# Altium integrated library Cypress USB Controllers.IntLib: 169 symbols (part 6 of 16)
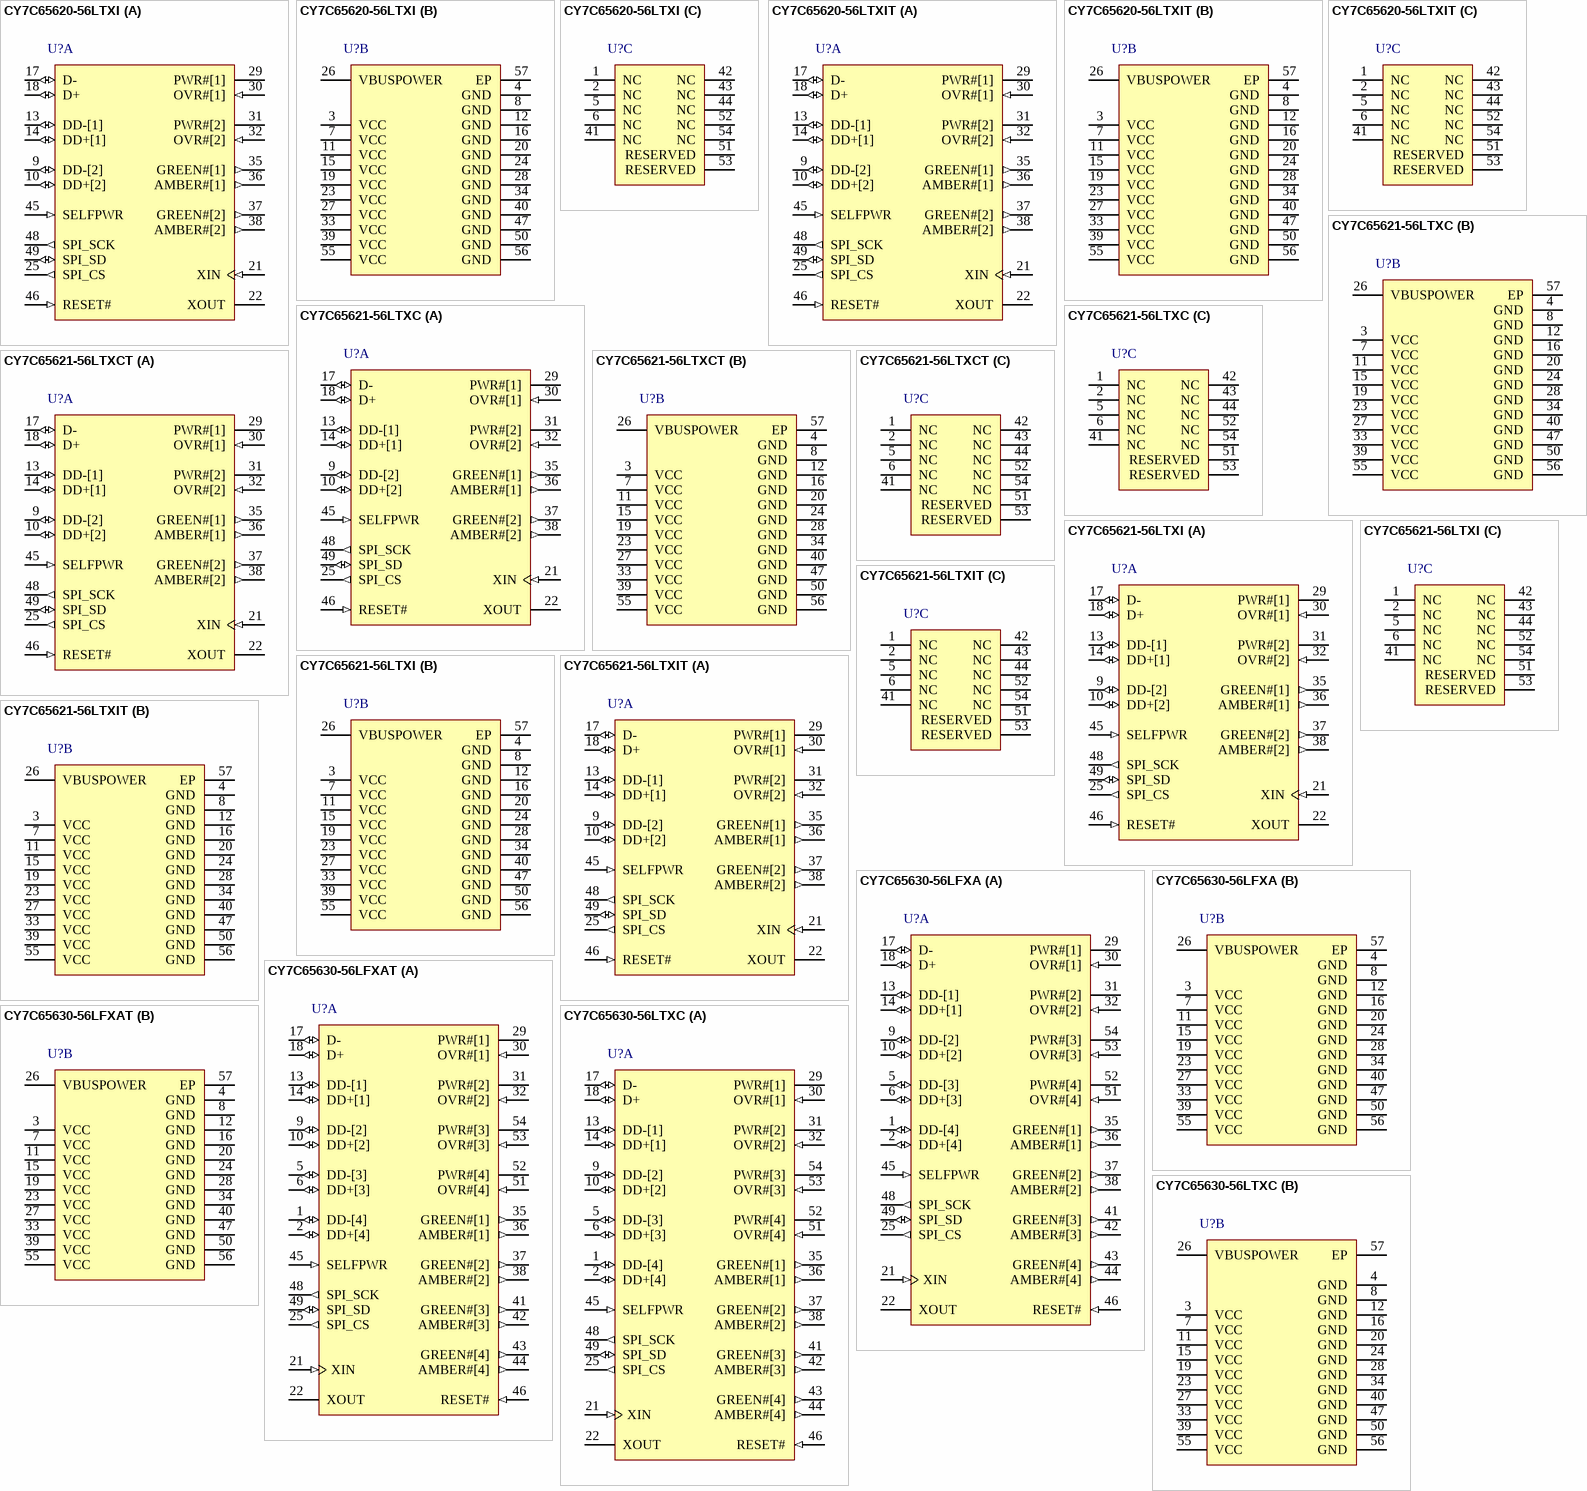
[diagram p27: symbols CY7C65620-56LTXI to CY7C65630-56LTXC]

## CY7C65630-56LFXA
designator U?
EZ-USB HX2LP(TM) Low Power USB 2.0 Hub Controller Family, 4 Hub Ports, 3.15 to 3.45 V, -40 to 85 degC, 56-Pin QFN (LFX56), Tray; Manufacturer: Cypress; PartNumber: CY7C65630-56LFXA; Max. Operating Voltage (V): 3.45; Min. Operating Voltage (V): 3.15; No. of Hub Ports: 4; Single/Multi TT: Single; DatasheetVersion: Rev. *I; PackageVersion: Rev. *I; PackageReference: LFX56; PackageDescription: 56-Pin QFN (Subcon Punch Type), Body 8 x 8 mm, Pitch 0.5 mm; Supplier 1: Digi-Key; Supplier Part Number 1: CY7C65630-56LFXA-ND; Supplier 2: Farnell; Supplier Part Number 2: 1874118; Supplier 3: Newark; Supplier Part Number 3: 53M3691; Supplier 4: Mouser; Supplier Part Number 4: 727-CY7C65630-56LFXA; Max. Operating Temp. (degreesC): 85; Min. Operating Temp. (degreesC): -40; Packing: Tray; RoHS: Pb-Free; Mounting Technology: Surface Mount; Code_JEDEC: MO-220; ComponentLink1Description: Manufacturer URL; ComponentLink1URL: http://www.cypress.com/; ComponentLink2Description: Datasheet; ComponentLink2URL: http://www.cypress.com/?docID=45022; ComponentLink3Description: Package Specification; ComponentLink3URL: http://www.cypress.com/?docID=45022
footprint CYP-LFX56-6100X6100TP_N (QFN, 56-Leads, Body 8.1x8.1mm, Pitch 0.5mm, Thermal Pad 6.1X6.1mm, IPC Medium Density)
footprint CYP-LFX56-6100X6100TP_L (QFN, 56-Leads, Body 8.1x8.1mm, Pitch 0.5mm, Thermal Pad 6.1X6.1mm, IPC High Density)
footprint CYP-LFX56-6100X6100TP_M (QFN, 56-Leads, Body 8.1x8.1mm, Pitch 0.5mm, Thermal Pad 6.1X6.1mm, IPC Low Density)
part A pins: 1 DD-[4] (io) "Downstream D- Signal.", 2 DD+[4] (io) "Downstream D+ Signal.", 5 DD-[3] (io) "Downstream D- Signal.", 6 DD+[3] (io) "Downstream D+ Signal.", 9 DD-[2] (io) "Downstream D- Signal.", 10 DD+[2] (io) "Downstream D+ Signal.", 13 DD-[1] (io) "Downstream D- Signal.", 14 DD+[1] (io) "Downstream D+ Signal.", 17 D- (io) "Upstream D- Signal.", 18 D+ (io) "Upstream D+ Signal.", 21 XIN (in) "24 MHz crystal IN or external clock input.", 22 XOUT "24 MHz crystal OUT. (NC if external clock is used)", 25 SPI_CS (out) "SPI chip select. Connect to CS pin of the EEPROM.", 29 PWR#[1] (hiz) "Power switch driver output. Default is active LOW. Polarity is controlled through EEPROM.", 30 OVR#[1] (in) "Overcurrent condition detection input. Default is active LOW. Polarity is controlled through EEPROM.", 31 PWR#[2] (hiz) "Power switch driver output. Default is active LOW. Polarity is controlled through EEPROM.", 32 OVR#[2] (in) "Overcurrent condition detection input. Default is active LOW. Polarity is controlled through EEPROM.", 35 GREEN#[1] (out) "LED. Driver output for Green LED. Port indicator support. Default is active LOW. Polarity is controlled through EEPROM.", 36 AMBER#[1] (out) "LED. Driver output for Amber LED. Port indicator support. Default is active LOW. Polarity is controlled through EEPROM.", 37 GREEN#[2] (out) "LED. Driver output for green LED. Port indicator support. Default is active LOW. Polarity is controlled through EEPROM.", 38 AMBER#[2] (out) "LED. Driver output for amber LED. Port indicator support. Default is active LOW. Polarity is controlled through EEPROM.", 41 GREEN#[3] (out) "LED. Driver output for Green LED. Port indicator support. Default is active LOW. Polarity is controlled through EEPROM.", 42 AMBER#[3] (out) "LED. Driver output for amber LED. Port indicator support. Default is active LOW. Polarity is controlled through EEPROM.", 43 GREEN#[4] (out) "LED. Driver output for Green LED. Port indicator support. Default is active LOW. Polarity is controlled through EEPROM.", 44 AMBER#[4] (out) "LED. Driver output for amber LED. Port indicator support. Default is active LOW. Polarity is controlled through EEPROM.", 45 SELFPWR (in) "Self power. Indicator for bus or self powered. 0 is bus powered, 1 is self powered.", 46 RESET# (in) "Active LOW reset. This pin resets the entire chip. It is normally tied to VCC through a 100 K resistor, and to GND through a 0.1 uF capacitor. No other special power-up procedure is required.", 48 SPI_SCK (out) "SPI clock. Connect to EEPROM SCK pin.", 49 SPI_SD (io) "SPI dataline connect to GND with 15 kW resistor and to the Data I/O pin of the EEPROM.", 51 OVR#[4] (in) "Overcurrent condition detection input. Default is active LOW. Polarity is controlled through EEPROM. Reserved. Pull to deasserted state with external resistor (CY7C65620 only)", 52 PWR#[4] (hiz) "Power switch driver output. Default is active LOW. Polarity is controlled through EEPROM.", 53 OVR#[3] (in) "Overcurrent condition detection input. Default is active LOW. Polarity is controlled through EEPROM. Reserved. Pull to deasserted state with external resistor (CY7C65620 only)", 54 PWR#[3] (hiz) "Power switch driver output. Default is active LOW. Polarity is controlled through EEPROM."
part B pins: 3 VCC (power) "VCC. This signal provides power to the chip.", 4 GND (power) "GND. Connect to ground with as short a path as possible.", 7 VCC (power) "VCC. This signal provides power to the chip.", 8 GND (power) "GND. Connect to ground with as short a path as possible.", 11 VCC (power) "VCC. This signal provides power to the chip.", 12 GND (power) "GND. Connect to ground with as short a path as possible.", 15 VCC (power) "VCC. This signal provides power to the chip.", 16 GND (power) "GND. Connect to ground with as short a path as possible.", 19 VCC (power) "VCC. This signal provides power to the chip.", 20 GND (power) "GND. Connect to ground with as short a path as possible.", 23 VCC (power) "VCC. This signal provides power to the chip.", 24 GND (power) "GND. Connect to ground with as short a path as possible.", 26 VBUSPOWER (power) "VBUS. Connect to the VBUS pin of the upstream connector. This signal indicates to the hub that it is in a connected state, and may enable the D+ pull-up resistor to indicate a connection. (The hub does so after the external (See Datasheet)", 27 VCC (power) "VCC. This signal provides power to the chip.", 28 GND (power) "GND. Connect to ground with as short a path as possible.", 33 VCC (power) "VCC. This signal provides power to the chip.", 34 GND (power) "GND. Connect to ground with as short a path as possible.", 39 VCC (power) "VCC. This signal provides power to the chip.", 40 GND (power) "GND. Connect to ground with as short a path as possible.", 47 GND (power) "GND. Connect to ground with as short a path as possible.", 50 GND (power) "GND. Connect to ground with as short a path as possible.", 55 VCC (power) "VCC. This signal provides power to the chip.", 56 GND (power) "GND. Connect to ground with as short a path as possible.", 57 EP

## CY7C65630-56LFXAT
designator U?
EZ-USB HX2LP(TM) Low Power USB 2.0 Hub Controller Family, 4 Hub Ports, 3.15 to 3.45 V, -40 to 85 degC, 56-Pin QFN (LFX56), Tape and Reel; Manufacturer: Cypress; PartNumber: CY7C65630-56LFXAT; Max. Operating Voltage (V): 3.45; Min. Operating Voltage (V): 3.15; No. of Hub Ports: 4; Single/Multi TT: Single; DatasheetVersion: Rev. *I; PackageVersion: Rev. *I; PackageReference: LFX56; PackageDescription: 56-Pin QFN (Subcon Punch Type), Body 8 x 8 mm, Pitch 0.5 mm; Supplier 1: Newark; Supplier Part Number 1: 53M3692; Supplier 2: Mouser; Supplier Part Number 2: 727-CY7C6563056LFXAT; Max. Operating Temp. (degreesC): 85; Min. Operating Temp. (degreesC): -40; Packing: Tape and Reel; RoHS: Pb-Free; Mounting Technology: Surface Mount; Code_JEDEC: MO-220; ComponentLink1Description: Manufacturer URL; ComponentLink1URL: http://www.cypress.com/; ComponentLink2Description: Datasheet; ComponentLink2URL: http://www.cypress.com/?docID=45022; ComponentLink3Description: Package Specification; ComponentLink3URL: http://www.cypress.com/?docID=45022
footprint CYP-LFX56-6100X6100TP_N (QFN, 56-Leads, Body 8.1x8.1mm, Pitch 0.5mm, Thermal Pad 6.1X6.1mm, IPC Medium Density)
footprint CYP-LFX56-6100X6100TP_L (QFN, 56-Leads, Body 8.1x8.1mm, Pitch 0.5mm, Thermal Pad 6.1X6.1mm, IPC High Density)
footprint CYP-LFX56-6100X6100TP_M (QFN, 56-Leads, Body 8.1x8.1mm, Pitch 0.5mm, Thermal Pad 6.1X6.1mm, IPC Low Density)
part A pins: 1 DD-[4] (io) "Downstream D- Signal.", 2 DD+[4] (io) "Downstream D+ Signal.", 5 DD-[3] (io) "Downstream D- Signal.", 6 DD+[3] (io) "Downstream D+ Signal.", 9 DD-[2] (io) "Downstream D- Signal.", 10 DD+[2] (io) "Downstream D+ Signal.", 13 DD-[1] (io) "Downstream D- Signal.", 14 DD+[1] (io) "Downstream D+ Signal.", 17 D- (io) "Upstream D- Signal.", 18 D+ (io) "Upstream D+ Signal.", 21 XIN (in) "24 MHz crystal IN or external clock input.", 22 XOUT "24 MHz crystal OUT. (NC if external clock is used)", 25 SPI_CS (out) "SPI chip select. Connect to CS pin of the EEPROM.", 29 PWR#[1] (hiz) "Power switch driver output. Default is active LOW. Polarity is controlled through EEPROM.", 30 OVR#[1] (in) "Overcurrent condition detection input. Default is active LOW. Polarity is controlled through EEPROM.", 31 PWR#[2] (hiz) "Power switch driver output. Default is active LOW. Polarity is controlled through EEPROM.", 32 OVR#[2] (in) "Overcurrent condition detection input. Default is active LOW. Polarity is controlled through EEPROM.", 35 GREEN#[1] (out) "LED. Driver output for Green LED. Port indicator support. Default is active LOW. Polarity is controlled through EEPROM.", 36 AMBER#[1] (out) "LED. Driver output for Amber LED. Port indicator support. Default is active LOW. Polarity is controlled through EEPROM.", 37 GREEN#[2] (out) "LED. Driver output for green LED. Port indicator support. Default is active LOW. Polarity is controlled through EEPROM.", 38 AMBER#[2] (out) "LED. Driver output for amber LED. Port indicator support. Default is active LOW. Polarity is controlled through EEPROM.", 41 GREEN#[3] (out) "LED. Driver output for Green LED. Port indicator support. Default is active LOW. Polarity is controlled through EEPROM.", 42 AMBER#[3] (out) "LED. Driver output for amber LED. Port indicator support. Default is active LOW. Polarity is controlled through EEPROM.", 43 GREEN#[4] (out) "LED. Driver output for Green LED. Port indicator support. Default is active LOW. Polarity is controlled through EEPROM.", 44 AMBER#[4] (out) "LED. Driver output for amber LED. Port indicator support. Default is active LOW. Polarity is controlled through EEPROM.", 45 SELFPWR (in) "Self power. Indicator for bus or self powered. 0 is bus powered, 1 is self powered.", 46 RESET# (in) "Active LOW reset. This pin resets the entire chip. It is normally tied to VCC through a 100 K resistor, and to GND through a 0.1 uF capacitor. No other special power-up procedure is required.", 48 SPI_SCK (out) "SPI clock. Connect to EEPROM SCK pin.", 49 SPI_SD (io) "SPI dataline connect to GND with 15 kW resistor and to the Data I/O pin of the EEPROM.", 51 OVR#[4] (in) "Overcurrent condition detection input. Default is active LOW. Polarity is controlled through EEPROM. Reserved. Pull to deasserted state with external resistor (CY7C65620 only)", 52 PWR#[4] (hiz) "Power switch driver output. Default is active LOW. Polarity is controlled through EEPROM.", 53 OVR#[3] (in) "Overcurrent condition detection input. Default is active LOW. Polarity is controlled through EEPROM. Reserved. Pull to deasserted state with external resistor (CY7C65620 only)", 54 PWR#[3] (hiz) "Power switch driver output. Default is active LOW. Polarity is controlled through EEPROM."
part B pins: 3 VCC (power) "VCC. This signal provides power to the chip.", 4 GND (power) "GND. Connect to ground with as short a path as possible.", 7 VCC (power) "VCC. This signal provides power to the chip.", 8 GND (power) "GND. Connect to ground with as short a path as possible.", 11 VCC (power) "VCC. This signal provides power to the chip.", 12 GND (power) "GND. Connect to ground with as short a path as possible.", 15 VCC (power) "VCC. This signal provides power to the chip.", 16 GND (power) "GND. Connect to ground with as short a path as possible.", 19 VCC (power) "VCC. This signal provides power to the chip.", 20 GND (power) "GND. Connect to ground with as short a path as possible.", 23 VCC (power) "VCC. This signal provides power to the chip.", 24 GND (power) "GND. Connect to ground with as short a path as possible.", 26 VBUSPOWER (power) "VBUS. Connect to the VBUS pin of the upstream connector. This signal indicates to the hub that it is in a connected state, and may enable the D+ pull-up resistor to indicate a connection. (The hub does so after the external (See Datasheet)", 27 VCC (power) "VCC. This signal provides power to the chip.", 28 GND (power) "GND. Connect to ground with as short a path as possible.", 33 VCC (power) "VCC. This signal provides power to the chip.", 34 GND (power) "GND. Connect to ground with as short a path as possible.", 39 VCC (power) "VCC. This signal provides power to the chip.", 40 GND (power) "GND. Connect to ground with as short a path as possible.", 47 GND (power) "GND. Connect to ground with as short a path as possible.", 50 GND (power) "GND. Connect to ground with as short a path as possible.", 55 VCC (power) "VCC. This signal provides power to the chip.", 56 GND (power) "GND. Connect to ground with as short a path as possible.", 57 EP

## CY7C65630-56LTXC
designator U?
EZ-USB HX2LP(TM) Low Power USB 2.0 Hub Controller Family, 4 Hub Ports, 3.15 to 3.45 V, 0 to 70 degC, 56-Pin QFN (LTX56), Tray; Manufacturer: Cypress; PartNumber: CY7C65630-56LTXC; Max. Operating Voltage (V): 3.45; Min. Operating Voltage (V): 3.15; No. of Hub Ports: 4; Single/Multi TT: Single; DatasheetVersion: Rev. *I; PackageVersion: Rev. *F; PackageReference: LTX56; PackageDescription: 56-Pin Sawn QFN, Body 8 x 8 mm, Pitch 0.5 mm; Supplier 1: Digi-Key; Supplier Part Number 1: 428-3009-ND; Supplier 2: Farnell; Supplier Part Number 2: 1874102; Supplier 3: Newark; Supplier Part Number 3: 50R9445; Supplier 4: Mouser; Supplier Part Number 4: 727-CY7C65630-56LTXC; Max. Operating Temp. (degreesC): 70; Min. Operating Temp. (degreesC): 0; Packing: Tray; RoHS: Pb-Free; Mounting Technology: Surface Mount; Code_JEDEC: MO-220; ComponentLink1Description: Manufacturer URL; ComponentLink1URL: http://www.cypress.com/; ComponentLink2Description: Datasheet; ComponentLink2URL: http://www.cypress.com/?docID=45022; ComponentLink3Description: Package Specification; ComponentLink3URL: http://www.cypress.com/?docID=45022
footprint CYP-LTX56-6100X6100TP_N (QFN, 56-Leads, Body 8.1x8.1mm, Pitch 0.5mm, Thermal Pad 6.1x6.1mm, IPC Medium Density)
footprint CYP-LTX56-6100X6100TP_L (QFN, 56-Leads, Body 8.1x8.1mm, Pitch 0.5mm, Thermal Pad 6.1x6.1mm, IPC High Density)
footprint CYP-LTX56-6100X6100TP_M (QFN, 56-Leads, Body 8.1x8.1mm, Pitch 0.5mm, Thermal Pad 6.1x6.1mm, IPC Low Density)
part A pins: 1 DD-[4] (io) "Downstream D- Signal.", 2 DD+[4] (io) "Downstream D+ Signal.", 5 DD-[3] (io) "Downstream D- Signal.", 6 DD+[3] (io) "Downstream D+ Signal.", 9 DD-[2] (io) "Downstream D- Signal.", 10 DD+[2] (io) "Downstream D+ Signal.", 13 DD-[1] (io) "Downstream D- Signal.", 14 DD+[1] (io) "Downstream D+ Signal.", 17 D- (io) "Upstream D- Signal.", 18 D+ (io) "Upstream D+ Signal.", 21 XIN (in) "24 MHz crystal IN or external clock input.", 22 XOUT "24 MHz crystal OUT. (NC if external clock is used)", 25 SPI_CS (out) "SPI chip select. Connect to CS pin of the EEPROM.", 29 PWR#[1] (hiz) "Power switch driver output. Default is active LOW. Polarity is controlled through EEPROM.", 30 OVR#[1] (in) "Overcurrent condition detection input. Default is active LOW. Polarity is controlled through EEPROM.", 31 PWR#[2] (hiz) "Power switch driver output. Default is active LOW. Polarity is controlled through EEPROM.", 32 OVR#[2] (in) "Overcurrent condition detection input. Default is active LOW. Polarity is controlled through EEPROM.", 35 GREEN#[1] (out) "LED. Driver output for Green LED. Port indicator support. Default is active LOW. Polarity is controlled through EEPROM.", 36 AMBER#[1] (out) "LED. Driver output for Amber LED. Port indicator support. Default is active LOW. Polarity is controlled through EEPROM.", 37 GREEN#[2] (out) "LED. Driver output for green LED. Port indicator support. Default is active LOW. Polarity is controlled through EEPROM.", 38 AMBER#[2] (out) "LED. Driver output for amber LED. Port indicator support. Default is active LOW. Polarity is controlled through EEPROM.", 41 GREEN#[3] (out) "LED. Driver output for Green LED. Port indicator support. Default is active LOW. Polarity is controlled through EEPROM.", 42 AMBER#[3] (out) "LED. Driver output for amber LED. Port indicator support. Default is active LOW. Polarity is controlled through EEPROM.", 43 GREEN#[4] (out) "LED. Driver output for Green LED. Port indicator support. Default is active LOW. Polarity is controlled through EEPROM.", 44 AMBER#[4] (out) "LED. Driver output for amber LED. Port indicator support. Default is active LOW. Polarity is controlled through EEPROM.", 45 SELFPWR (in) "Self power. Indicator for bus or self powered. 0 is bus powered, 1 is self powered.", 46 RESET# (in) "Active LOW reset. This pin resets the entire chip. It is normally tied to VCC through a 100 K resistor, and to GND through a 0.1 uF capacitor. No other special power-up procedure is required.", 48 SPI_SCK (out) "SPI clock. Connect to EEPROM SCK pin.", 49 SPI_SD (io) "SPI dataline connect to GND with 15 kW resistor and to the Data I/O pin of the EEPROM.", 51 OVR#[4] (in) "Overcurrent condition detection input. Default is active LOW. Polarity is controlled through EEPROM. Reserved. Pull to deasserted state with external resistor (CY7C65620 only)", 52 PWR#[4] (hiz) "Power switch driver output. Default is active LOW. Polarity is controlled through EEPROM.", 53 OVR#[3] (in) "Overcurrent condition detection input. Default is active LOW. Polarity is controlled through EEPROM. Reserved. Pull to deasserted state with external resistor (CY7C65620 only)", 54 PWR#[3] (hiz) "Power switch driver output. Default is active LOW. Polarity is controlled through EEPROM."
part B pins: 3 VCC (power) "VCC. This signal provides power to the chip.", 4 GND (power) "GND. Connect to ground with as short a path as possible.", 7 VCC (power) "VCC. This signal provides power to the chip.", 8 GND (power) "GND. Connect to ground with as short a path as possible.", 11 VCC (power) "VCC. This signal provides power to the chip.", 12 GND (power) "GND. Connect to ground with as short a path as possible.", 15 VCC (power) "VCC. This signal provides power to the chip.", 16 GND (power) "GND. Connect to ground with as short a path as possible.", 19 VCC (power) "VCC. This signal provides power to the chip.", 20 GND (power) "GND. Connect to ground with as short a path as possible.", 23 VCC (power) "VCC. This signal provides power to the chip.", 24 GND (power) "GND. Connect to ground with as short a path as possible.", 26 VBUSPOWER (power) "VBUS. Connect to the VBUS pin of the upstream connector. This signal indicates to the hub that it is in a connected state, and may enable the D+ pull-up resistor to indicate a connection. (The hub does so after the external (See Datasheet)", 27 VCC (power) "VCC. This signal provides power to the chip.", 28 GND (power) "GND. Connect to ground with as short a path as possible.", 33 VCC (power) "VCC. This signal provides power to the chip.", 34 GND (power) "GND. Connect to ground with as short a path as possible.", 39 VCC (power) "VCC. This signal provides power to the chip.", 40 GND (power) "GND. Connect to ground with as short a path as possible.", 47 GND (power) "GND. Connect to ground with as short a path as possible.", 50 GND (power) "GND. Connect to ground with as short a path as possible.", 55 VCC (power) "VCC. This signal provides power to the chip.", 56 GND (power) "GND. Connect to ground with as short a path as possible.", 57 EP

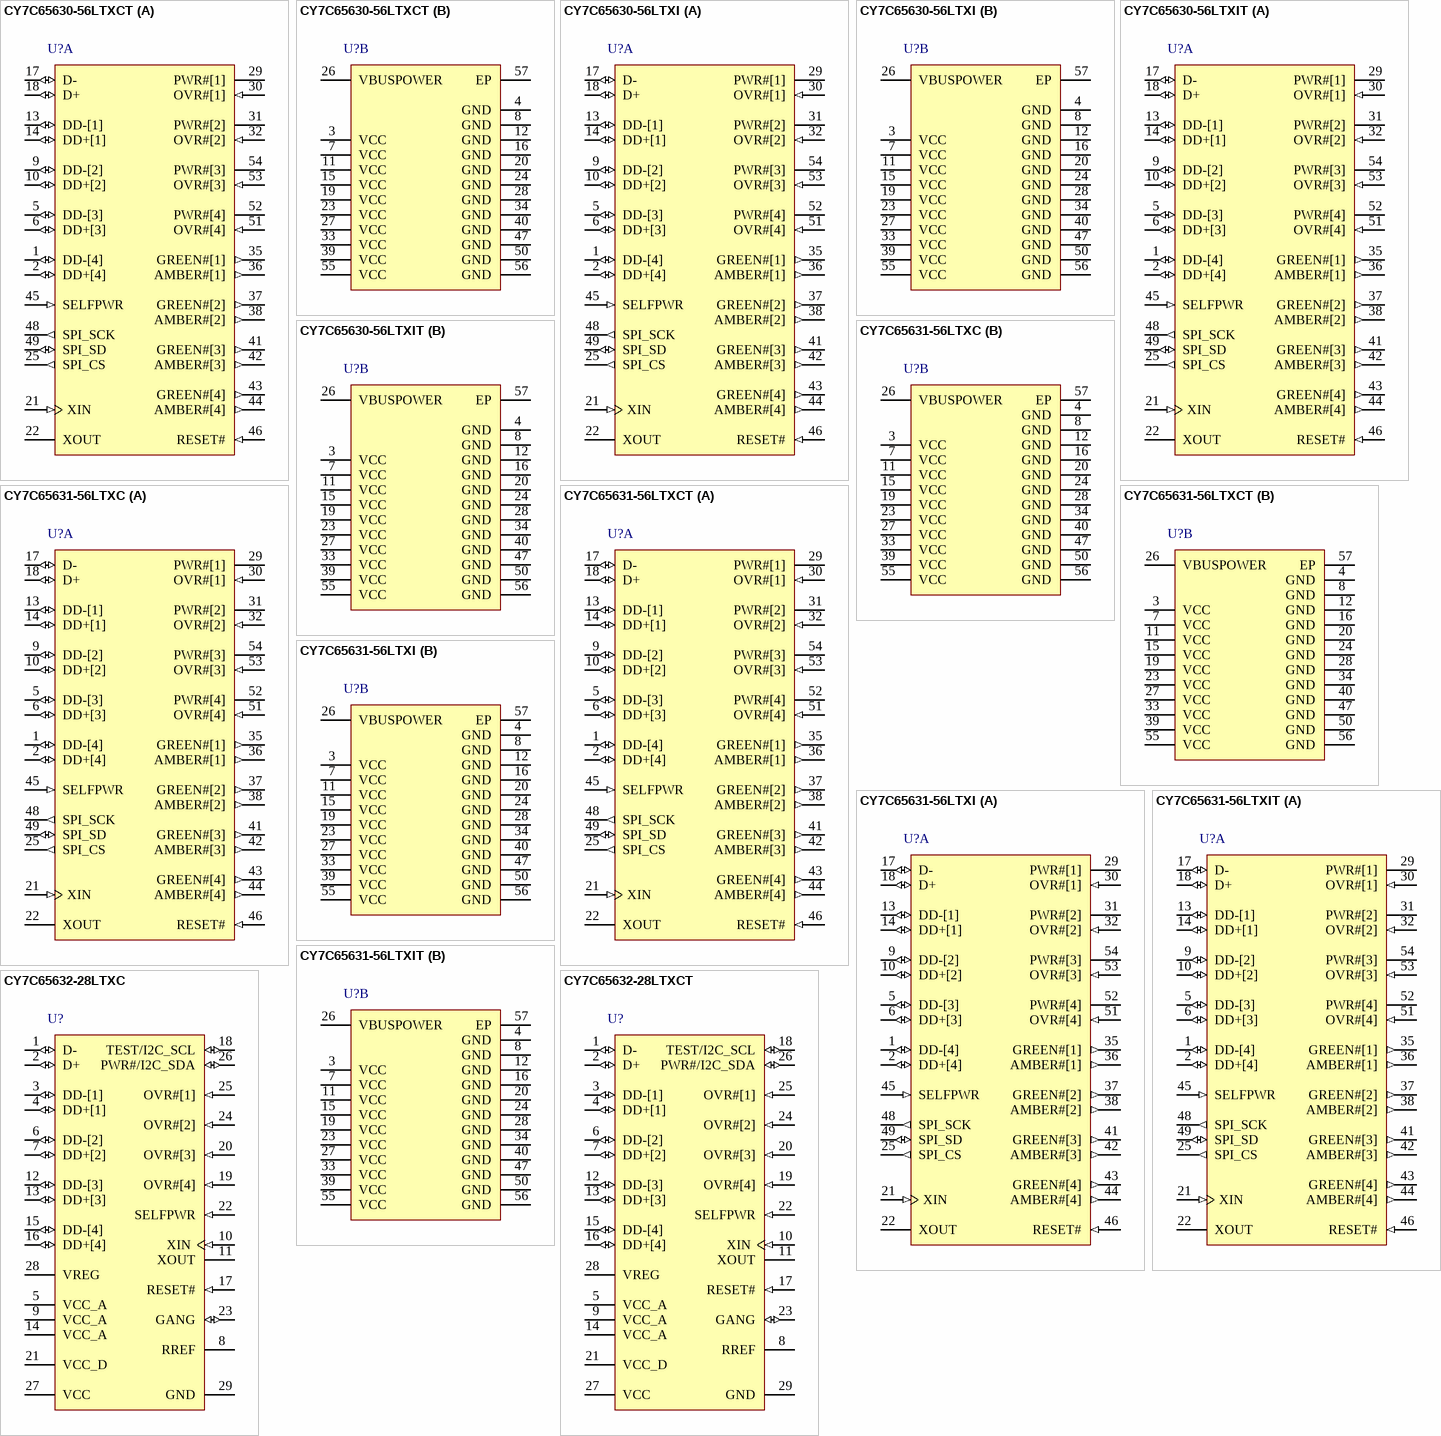
[diagram p5: symbols CY7C65630-56LTXCT to CY7C65632-28LTXCT]

## CY7C65630-56LTXCT
designator U?
EZ-USB HX2LP(TM) Low Power USB 2.0 Hub Controller Family, 4 Hub Ports, 3.15 to 3.45 V, 0 to 70 degC, 56-Pin QFN (LTX56), Tape and Reel; Manufacturer: Cypress; PartNumber: CY7C65630-56LTXCT; Max. Operating Voltage (V): 3.45; Min. Operating Voltage (V): 3.15; No. of Hub Ports: 4; Single/Multi TT: Single; DatasheetVersion: Rev. *I; PackageVersion: Rev. *F; PackageReference: LTX56; PackageDescription: 56-Pin Sawn QFN, Body 8 x 8 mm, Pitch 0.5 mm; Supplier 1: Digi-Key; Supplier Part Number 1: CY7C65630-56LTXCT-ND; Supplier 2: Mouser; Supplier Part Number 2: 727-CY7C6563056LTXCT; Max. Operating Temp. (degreesC): 70; Min. Operating Temp. (degreesC): 0; Packing: Tape and Reel; RoHS: Pb-Free; Mounting Technology: Surface Mount; Code_JEDEC: MO-220; ComponentLink1Description: Manufacturer URL; ComponentLink1URL: http://www.cypress.com/; ComponentLink2Description: Datasheet; ComponentLink2URL: http://www.cypress.com/?docID=45022; ComponentLink3Description: Package Specification; ComponentLink3URL: http://www.cypress.com/?docID=45022
footprint CYP-LTX56-6100X6100TP_N (QFN, 56-Leads, Body 8.1x8.1mm, Pitch 0.5mm, Thermal Pad 6.1x6.1mm, IPC Medium Density)
footprint CYP-LTX56-6100X6100TP_L (QFN, 56-Leads, Body 8.1x8.1mm, Pitch 0.5mm, Thermal Pad 6.1x6.1mm, IPC High Density)
footprint CYP-LTX56-6100X6100TP_M (QFN, 56-Leads, Body 8.1x8.1mm, Pitch 0.5mm, Thermal Pad 6.1x6.1mm, IPC Low Density)
part A pins: 1 DD-[4] (io) "Downstream D- Signal.", 2 DD+[4] (io) "Downstream D+ Signal.", 5 DD-[3] (io) "Downstream D- Signal.", 6 DD+[3] (io) "Downstream D+ Signal.", 9 DD-[2] (io) "Downstream D- Signal.", 10 DD+[2] (io) "Downstream D+ Signal.", 13 DD-[1] (io) "Downstream D- Signal.", 14 DD+[1] (io) "Downstream D+ Signal.", 17 D- (io) "Upstream D- Signal.", 18 D+ (io) "Upstream D+ Signal.", 21 XIN (in) "24 MHz crystal IN or external clock input.", 22 XOUT "24 MHz crystal OUT. (NC if external clock is used)", 25 SPI_CS (out) "SPI chip select. Connect to CS pin of the EEPROM.", 29 PWR#[1] (hiz) "Power switch driver output. Default is active LOW. Polarity is controlled through EEPROM.", 30 OVR#[1] (in) "Overcurrent condition detection input. Default is active LOW. Polarity is controlled through EEPROM.", 31 PWR#[2] (hiz) "Power switch driver output. Default is active LOW. Polarity is controlled through EEPROM.", 32 OVR#[2] (in) "Overcurrent condition detection input. Default is active LOW. Polarity is controlled through EEPROM.", 35 GREEN#[1] (out) "LED. Driver output for Green LED. Port indicator support. Default is active LOW. Polarity is controlled through EEPROM.", 36 AMBER#[1] (out) "LED. Driver output for Amber LED. Port indicator support. Default is active LOW. Polarity is controlled through EEPROM.", 37 GREEN#[2] (out) "LED. Driver output for green LED. Port indicator support. Default is active LOW. Polarity is controlled through EEPROM.", 38 AMBER#[2] (out) "LED. Driver output for amber LED. Port indicator support. Default is active LOW. Polarity is controlled through EEPROM.", 41 GREEN#[3] (out) "LED. Driver output for Green LED. Port indicator support. Default is active LOW. Polarity is controlled through EEPROM.", 42 AMBER#[3] (out) "LED. Driver output for amber LED. Port indicator support. Default is active LOW. Polarity is controlled through EEPROM.", 43 GREEN#[4] (out) "LED. Driver output for Green LED. Port indicator support. Default is active LOW. Polarity is controlled through EEPROM.", 44 AMBER#[4] (out) "LED. Driver output for amber LED. Port indicator support. Default is active LOW. Polarity is controlled through EEPROM.", 45 SELFPWR (in) "Self power. Indicator for bus or self powered. 0 is bus powered, 1 is self powered.", 46 RESET# (in) "Active LOW reset. This pin resets the entire chip. It is normally tied to VCC through a 100 K resistor, and to GND through a 0.1 uF capacitor. No other special power-up procedure is required.", 48 SPI_SCK (out) "SPI clock. Connect to EEPROM SCK pin.", 49 SPI_SD (io) "SPI dataline connect to GND with 15 kW resistor and to the Data I/O pin of the EEPROM.", 51 OVR#[4] (in) "Overcurrent condition detection input. Default is active LOW. Polarity is controlled through EEPROM. Reserved. Pull to deasserted state with external resistor (CY7C65620 only)", 52 PWR#[4] (hiz) "Power switch driver output. Default is active LOW. Polarity is controlled through EEPROM.", 53 OVR#[3] (in) "Overcurrent condition detection input. Default is active LOW. Polarity is controlled through EEPROM. Reserved. Pull to deasserted state with external resistor (CY7C65620 only)", 54 PWR#[3] (hiz) "Power switch driver output. Default is active LOW. Polarity is controlled through EEPROM."
part B pins: 3 VCC (power) "VCC. This signal provides power to the chip.", 4 GND (power) "GND. Connect to ground with as short a path as possible.", 7 VCC (power) "VCC. This signal provides power to the chip.", 8 GND (power) "GND. Connect to ground with as short a path as possible.", 11 VCC (power) "VCC. This signal provides power to the chip.", 12 GND (power) "GND. Connect to ground with as short a path as possible.", 15 VCC (power) "VCC. This signal provides power to the chip.", 16 GND (power) "GND. Connect to ground with as short a path as possible.", 19 VCC (power) "VCC. This signal provides power to the chip.", 20 GND (power) "GND. Connect to ground with as short a path as possible.", 23 VCC (power) "VCC. This signal provides power to the chip.", 24 GND (power) "GND. Connect to ground with as short a path as possible.", 26 VBUSPOWER (power) "VBUS. Connect to the VBUS pin of the upstream connector. This signal indicates to the hub that it is in a connected state, and may enable the D+ pull-up resistor to indicate a connection. (The hub does so after the external (See Datasheet)", 27 VCC (power) "VCC. This signal provides power to the chip.", 28 GND (power) "GND. Connect to ground with as short a path as possible.", 33 VCC (power) "VCC. This signal provides power to the chip.", 34 GND (power) "GND. Connect to ground with as short a path as possible.", 39 VCC (power) "VCC. This signal provides power to the chip.", 40 GND (power) "GND. Connect to ground with as short a path as possible.", 47 GND (power) "GND. Connect to ground with as short a path as possible.", 50 GND (power) "GND. Connect to ground with as short a path as possible.", 55 VCC (power) "VCC. This signal provides power to the chip.", 56 GND (power) "GND. Connect to ground with as short a path as possible.", 57 EP

## CY7C65630-56LTXI
designator U?
EZ-USB HX2LP(TM) Low Power USB 2.0 Hub Controller Family, 4 Hub Ports, 3.15 to 3.45 V, -40 to 85 degC, 56-Pin QFN (LTX56), Tray; Manufacturer: Cypress; PartNumber: CY7C65630-56LTXI; Max. Operating Voltage (V): 3.45; Min. Operating Voltage (V): 3.15; No. of Hub Ports: 4; Single/Multi TT: Single; DatasheetVersion: Rev. *I; PackageVersion: Rev. *F; PackageReference: LTX56; PackageDescription: 56-Pin Sawn QFN, Body 8 x 8 mm, Pitch 0.5 mm; Supplier 1: Digi-Key; Supplier Part Number 1: CY7C65630-56LTXI-ND; Supplier 2: Mouser; Supplier Part Number 2: 727-CY7C65630-56LTXI; Max. Operating Temp. (degreesC): 85; Min. Operating Temp. (degreesC): -40; Packing: Tray; RoHS: Pb-Free; Mounting Technology: Surface Mount; Code_JEDEC: MO-220; ComponentLink1Description: Manufacturer URL; ComponentLink1URL: http://www.cypress.com/; ComponentLink2Description: Datasheet; ComponentLink2URL: http://www.cypress.com/?docID=45022; ComponentLink3Description: Package Specification; ComponentLink3URL: http://www.cypress.com/?docID=45022
footprint CYP-LTX56-6100X6100TP_N (QFN, 56-Leads, Body 8.1x8.1mm, Pitch 0.5mm, Thermal Pad 6.1x6.1mm, IPC Medium Density)
footprint CYP-LTX56-6100X6100TP_L (QFN, 56-Leads, Body 8.1x8.1mm, Pitch 0.5mm, Thermal Pad 6.1x6.1mm, IPC High Density)
footprint CYP-LTX56-6100X6100TP_M (QFN, 56-Leads, Body 8.1x8.1mm, Pitch 0.5mm, Thermal Pad 6.1x6.1mm, IPC Low Density)
part A pins: 1 DD-[4] (io) "Downstream D- Signal.", 2 DD+[4] (io) "Downstream D+ Signal.", 5 DD-[3] (io) "Downstream D- Signal.", 6 DD+[3] (io) "Downstream D+ Signal.", 9 DD-[2] (io) "Downstream D- Signal.", 10 DD+[2] (io) "Downstream D+ Signal.", 13 DD-[1] (io) "Downstream D- Signal.", 14 DD+[1] (io) "Downstream D+ Signal.", 17 D- (io) "Upstream D- Signal.", 18 D+ (io) "Upstream D+ Signal.", 21 XIN (in) "24 MHz crystal IN or external clock input.", 22 XOUT "24 MHz crystal OUT. (NC if external clock is used)", 25 SPI_CS (out) "SPI chip select. Connect to CS pin of the EEPROM.", 29 PWR#[1] (hiz) "Power switch driver output. Default is active LOW. Polarity is controlled through EEPROM.", 30 OVR#[1] (in) "Overcurrent condition detection input. Default is active LOW. Polarity is controlled through EEPROM.", 31 PWR#[2] (hiz) "Power switch driver output. Default is active LOW. Polarity is controlled through EEPROM.", 32 OVR#[2] (in) "Overcurrent condition detection input. Default is active LOW. Polarity is controlled through EEPROM.", 35 GREEN#[1] (out) "LED. Driver output for Green LED. Port indicator support. Default is active LOW. Polarity is controlled through EEPROM.", 36 AMBER#[1] (out) "LED. Driver output for Amber LED. Port indicator support. Default is active LOW. Polarity is controlled through EEPROM.", 37 GREEN#[2] (out) "LED. Driver output for green LED. Port indicator support. Default is active LOW. Polarity is controlled through EEPROM.", 38 AMBER#[2] (out) "LED. Driver output for amber LED. Port indicator support. Default is active LOW. Polarity is controlled through EEPROM.", 41 GREEN#[3] (out) "LED. Driver output for Green LED. Port indicator support. Default is active LOW. Polarity is controlled through EEPROM.", 42 AMBER#[3] (out) "LED. Driver output for amber LED. Port indicator support. Default is active LOW. Polarity is controlled through EEPROM.", 43 GREEN#[4] (out) "LED. Driver output for Green LED. Port indicator support. Default is active LOW. Polarity is controlled through EEPROM.", 44 AMBER#[4] (out) "LED. Driver output for amber LED. Port indicator support. Default is active LOW. Polarity is controlled through EEPROM.", 45 SELFPWR (in) "Self power. Indicator for bus or self powered. 0 is bus powered, 1 is self powered.", 46 RESET# (in) "Active LOW reset. This pin resets the entire chip. It is normally tied to VCC through a 100 K resistor, and to GND through a 0.1 uF capacitor. No other special power-up procedure is required.", 48 SPI_SCK (out) "SPI clock. Connect to EEPROM SCK pin.", 49 SPI_SD (io) "SPI dataline connect to GND with 15 kW resistor and to the Data I/O pin of the EEPROM.", 51 OVR#[4] (in) "Overcurrent condition detection input. Default is active LOW. Polarity is controlled through EEPROM. Reserved. Pull to deasserted state with external resistor (CY7C65620 only)", 52 PWR#[4] (hiz) "Power switch driver output. Default is active LOW. Polarity is controlled through EEPROM.", 53 OVR#[3] (in) "Overcurrent condition detection input. Default is active LOW. Polarity is controlled through EEPROM. Reserved. Pull to deasserted state with external resistor (CY7C65620 only)", 54 PWR#[3] (hiz) "Power switch driver output. Default is active LOW. Polarity is controlled through EEPROM."
part B pins: 3 VCC (power) "VCC. This signal provides power to the chip.", 4 GND (power) "GND. Connect to ground with as short a path as possible.", 7 VCC (power) "VCC. This signal provides power to the chip.", 8 GND (power) "GND. Connect to ground with as short a path as possible.", 11 VCC (power) "VCC. This signal provides power to the chip.", 12 GND (power) "GND. Connect to ground with as short a path as possible.", 15 VCC (power) "VCC. This signal provides power to the chip.", 16 GND (power) "GND. Connect to ground with as short a path as possible.", 19 VCC (power) "VCC. This signal provides power to the chip.", 20 GND (power) "GND. Connect to ground with as short a path as possible.", 23 VCC (power) "VCC. This signal provides power to the chip.", 24 GND (power) "GND. Connect to ground with as short a path as possible.", 26 VBUSPOWER (power) "VBUS. Connect to the VBUS pin of the upstream connector. This signal indicates to the hub that it is in a connected state, and may enable the D+ pull-up resistor to indicate a connection. (The hub does so after the external (See Datasheet)", 27 VCC (power) "VCC. This signal provides power to the chip.", 28 GND (power) "GND. Connect to ground with as short a path as possible.", 33 VCC (power) "VCC. This signal provides power to the chip.", 34 GND (power) "GND. Connect to ground with as short a path as possible.", 39 VCC (power) "VCC. This signal provides power to the chip.", 40 GND (power) "GND. Connect to ground with as short a path as possible.", 47 GND (power) "GND. Connect to ground with as short a path as possible.", 50 GND (power) "GND. Connect to ground with as short a path as possible.", 55 VCC (power) "VCC. This signal provides power to the chip.", 56 GND (power) "GND. Connect to ground with as short a path as possible.", 57 EP

## CY7C65630-56LTXIT
designator U?
EZ-USB HX2LP(TM) Low Power USB 2.0 Hub Controller Family, 4 Hub Ports, 3.15 to 3.45 V, -40 to 85 degC, 56-Pin QFN (LTX56), Tape and Reel; Manufacturer: Cypress; PartNumber: CY7C65630-56LTXIT; Max. Operating Voltage (V): 3.45; Min. Operating Voltage (V): 3.15; No. of Hub Ports: 4; Single/Multi TT: Single; DatasheetVersion: Rev. *I; PackageVersion: Rev. *F; PackageReference: LTX56; PackageDescription: 56-Pin Sawn QFN, Body 8 x 8 mm, Pitch 0.5 mm; Supplier 1: Digi-Key; Supplier Part Number 1: CY7C65630-56LTXIT-ND; Supplier 2: Mouser; Supplier Part Number 2: 727-CY7C6563056LTXIT; Max. Operating Temp. (degreesC): 85; Min. Operating Temp. (degreesC): -40; Packing: Tape and Reel; RoHS: Pb-Free; Mounting Technology: Surface Mount; Code_JEDEC: MO-220; ComponentLink1Description: Manufacturer URL; ComponentLink1URL: http://www.cypress.com/; ComponentLink2Description: Datasheet; ComponentLink2URL: http://www.cypress.com/?docID=45022; ComponentLink3Description: Package Specification; ComponentLink3URL: http://www.cypress.com/?docID=45022
footprint CYP-LTX56-6100X6100TP_N (QFN, 56-Leads, Body 8.1x8.1mm, Pitch 0.5mm, Thermal Pad 6.1x6.1mm, IPC Medium Density)
footprint CYP-LTX56-6100X6100TP_L (QFN, 56-Leads, Body 8.1x8.1mm, Pitch 0.5mm, Thermal Pad 6.1x6.1mm, IPC High Density)
footprint CYP-LTX56-6100X6100TP_M (QFN, 56-Leads, Body 8.1x8.1mm, Pitch 0.5mm, Thermal Pad 6.1x6.1mm, IPC Low Density)
part A pins: 1 DD-[4] (io) "Downstream D- Signal.", 2 DD+[4] (io) "Downstream D+ Signal.", 5 DD-[3] (io) "Downstream D- Signal.", 6 DD+[3] (io) "Downstream D+ Signal.", 9 DD-[2] (io) "Downstream D- Signal.", 10 DD+[2] (io) "Downstream D+ Signal.", 13 DD-[1] (io) "Downstream D- Signal.", 14 DD+[1] (io) "Downstream D+ Signal.", 17 D- (io) "Upstream D- Signal.", 18 D+ (io) "Upstream D+ Signal.", 21 XIN (in) "24 MHz crystal IN or external clock input.", 22 XOUT "24 MHz crystal OUT. (NC if external clock is used)", 25 SPI_CS (out) "SPI chip select. Connect to CS pin of the EEPROM.", 29 PWR#[1] (hiz) "Power switch driver output. Default is active LOW. Polarity is controlled through EEPROM.", 30 OVR#[1] (in) "Overcurrent condition detection input. Default is active LOW. Polarity is controlled through EEPROM.", 31 PWR#[2] (hiz) "Power switch driver output. Default is active LOW. Polarity is controlled through EEPROM.", 32 OVR#[2] (in) "Overcurrent condition detection input. Default is active LOW. Polarity is controlled through EEPROM.", 35 GREEN#[1] (out) "LED. Driver output for Green LED. Port indicator support. Default is active LOW. Polarity is controlled through EEPROM.", 36 AMBER#[1] (out) "LED. Driver output for Amber LED. Port indicator support. Default is active LOW. Polarity is controlled through EEPROM.", 37 GREEN#[2] (out) "LED. Driver output for green LED. Port indicator support. Default is active LOW. Polarity is controlled through EEPROM.", 38 AMBER#[2] (out) "LED. Driver output for amber LED. Port indicator support. Default is active LOW. Polarity is controlled through EEPROM.", 41 GREEN#[3] (out) "LED. Driver output for Green LED. Port indicator support. Default is active LOW. Polarity is controlled through EEPROM.", 42 AMBER#[3] (out) "LED. Driver output for amber LED. Port indicator support. Default is active LOW. Polarity is controlled through EEPROM.", 43 GREEN#[4] (out) "LED. Driver output for Green LED. Port indicator support. Default is active LOW. Polarity is controlled through EEPROM.", 44 AMBER#[4] (out) "LED. Driver output for amber LED. Port indicator support. Default is active LOW. Polarity is controlled through EEPROM.", 45 SELFPWR (in) "Self power. Indicator for bus or self powered. 0 is bus powered, 1 is self powered.", 46 RESET# (in) "Active LOW reset. This pin resets the entire chip. It is normally tied to VCC through a 100 K resistor, and to GND through a 0.1 uF capacitor. No other special power-up procedure is required.", 48 SPI_SCK (out) "SPI clock. Connect to EEPROM SCK pin.", 49 SPI_SD (io) "SPI dataline connect to GND with 15 kW resistor and to the Data I/O pin of the EEPROM.", 51 OVR#[4] (in) "Overcurrent condition detection input. Default is active LOW. Polarity is controlled through EEPROM. Reserved. Pull to deasserted state with external resistor (CY7C65620 only)", 52 PWR#[4] (hiz) "Power switch driver output. Default is active LOW. Polarity is controlled through EEPROM.", 53 OVR#[3] (in) "Overcurrent condition detection input. Default is active LOW. Polarity is controlled through EEPROM. Reserved. Pull to deasserted state with external resistor (CY7C65620 only)", 54 PWR#[3] (hiz) "Power switch driver output. Default is active LOW. Polarity is controlled through EEPROM."
part B pins: 3 VCC (power) "VCC. This signal provides power to the chip.", 4 GND (power) "GND. Connect to ground with as short a path as possible.", 7 VCC (power) "VCC. This signal provides power to the chip.", 8 GND (power) "GND. Connect to ground with as short a path as possible.", 11 VCC (power) "VCC. This signal provides power to the chip.", 12 GND (power) "GND. Connect to ground with as short a path as possible.", 15 VCC (power) "VCC. This signal provides power to the chip.", 16 GND (power) "GND. Connect to ground with as short a path as possible.", 19 VCC (power) "VCC. This signal provides power to the chip.", 20 GND (power) "GND. Connect to ground with as short a path as possible.", 23 VCC (power) "VCC. This signal provides power to the chip.", 24 GND (power) "GND. Connect to ground with as short a path as possible.", 26 VBUSPOWER (power) "VBUS. Connect to the VBUS pin of the upstream connector. This signal indicates to the hub that it is in a connected state, and may enable the D+ pull-up resistor to indicate a connection. (The hub does so after the external (See Datasheet)", 27 VCC (power) "VCC. This signal provides power to the chip.", 28 GND (power) "GND. Connect to ground with as short a path as possible.", 33 VCC (power) "VCC. This signal provides power to the chip.", 34 GND (power) "GND. Connect to ground with as short a path as possible.", 39 VCC (power) "VCC. This signal provides power to the chip.", 40 GND (power) "GND. Connect to ground with as short a path as possible.", 47 GND (power) "GND. Connect to ground with as short a path as possible.", 50 GND (power) "GND. Connect to ground with as short a path as possible.", 55 VCC (power) "VCC. This signal provides power to the chip.", 56 GND (power) "GND. Connect to ground with as short a path as possible.", 57 EP

## CY7C65631-56LTXC
designator U?
EZ-USB HX2LP Lite(TM) Low Power USB 2.0 Hub Controller Family, 4 Hub Ports, 3.15 to 3.45 V, 0 to 70 degC, 56-Pin QFN (LTX56), Tube; Manufacturer: Cypress; PartNumber: CY7C65631-56LTXC; Max. Operating Voltage (V): 3.45; Min. Operating Voltage (V): 3.15; No. of Hub Ports: 4; Single/Multi TT: Single; DatasheetVersion: Rev. *F; PackageVersion: Rev. *F; PackageReference: LTX56; PackageDescription: 56-Pin Sawn QFN, Body 8 x 8 mm, Pitch 0.5 mm; Supplier 1: Digi-Key; Supplier Part Number 1: 428-3034-ND; Supplier 2: Mouser; Supplier Part Number 2: 727-7C6563156LTXC; Max. Operating Temp. (degreesC): 70; Min. Operating Temp. (degreesC): 0; Packing: Tube; RoHS: Pb-Free; Mounting Technology: Surface Mount; Code_JEDEC: MO-220; ComponentLink1Description: Manufacturer URL; ComponentLink1URL: http://www.cypress.com/; ComponentLink2Description: Datasheet; ComponentLink2URL: http://www.cypress.com/?docID=41770; ComponentLink3Description: Package Specification; ComponentLink3URL: http://www.cypress.com/?docID=45022
footprint CYP-LTX56-6100X6100TP_N (QFN, 56-Leads, Body 8.1x8.1mm, Pitch 0.5mm, Thermal Pad 6.1x6.1mm, IPC Medium Density)
footprint CYP-LTX56-6100X6100TP_L (QFN, 56-Leads, Body 8.1x8.1mm, Pitch 0.5mm, Thermal Pad 6.1x6.1mm, IPC High Density)
footprint CYP-LTX56-6100X6100TP_M (QFN, 56-Leads, Body 8.1x8.1mm, Pitch 0.5mm, Thermal Pad 6.1x6.1mm, IPC Low Density)
part A pins: 1 DD-[4] (io) "Downstream D- Signal.", 2 DD+[4] (io) "Downstream D+ Signal.", 5 DD-[3] (io) "Downstream D- Signal.", 6 DD+[3] (io) "Downstream D+ Signal.", 9 DD-[2] (io) "Downstream D- Signal.", 10 DD+[2] (io) "Downstream D+ Signal.", 13 DD-[1] (io) "Downstream D- Signal.", 14 DD+[1] (io) "Downstream D+ Signal.", 17 D- (io) "Upstream D- Signal.", 18 D+ (io) "Upstream D+ Signal.", 21 XIN (in) "24 MHz Crystal IN or external Clock Input.", 22 XOUT "24 MHz Crystal OUT. (NC if external clock is used)", 25 SPI_CS (out) "SPI Chip Select. Connect to CS pin of the EEPROM.", 29 PWR#[1] (hiz) "Power Switch Driver Output. Default is active LOW. Polarity is controlled through EEPROM.", 30 OVR#[1] (in) "Overcurrent Condition Detection Input. Default is active LOW. Polarity is controlled through EEPROM.", 31 PWR#[2] (hiz) "Power Switch Driver Output. Default is active LOW. Polarity is controlled through EEPROM.", 32 OVR#[2] (in) "Overcurrent Condition Detection Input. Default is active LOW. Polarity is controlled through EEPROM.", 35 GREEN#[1] (out) "LED. Driver output for amber LED. Port indicator support. Default is active LOW. Polarity is controlled through EEPROM.", 36 AMBER#[1] (out) "LED. Driver output for amber LED. Port indicator support. Default is active LOW. Polarity is controlled through EEPROM.", 37 GREEN#[2] (out) "LED. Driver output for green LED. Port indicator support. Default is active LOW. Polarity is controlled through EEPROM.", 38 AMBER#[2] (out) "LED. Driver output for amber LED. Port indicator support. Default is active LOW. Polarity is controlled through EEPROM.", 41 GREEN#[3] (out) "LED. Driver output for green LED. Port indicator support. Default is active LOW. Polarity is controlled through EEPROM.", 42 AMBER#[3] (out) "LED. Driver output for amber LED. Port indicator support. Default is active LOW. Polarity is controlled through EEPROM.", 43 GREEN#[4] (out) "LED. Driver output for green LED. Port indicator support.Default is active LOW. Polarity is controlled through EEPROM.", 44 AMBER#[4] (out) "LED. Driver output for amber LED. Port indicator support. Default is active LOW. Polarity is controlled through EEPROM.", 45 SELFPWR (in) "Self Power. Indicator for bus or self powered. 0 is bus powered, 1 is self powered.", 46 RESET# (in) "Active LOW Reset. This pin resets the entire chip. It is normally tied to VCC through a 100K resistor, and to GND through a 0.1 uF capacitor. Other than this, no other special power up procedure is required.", 48 SPI_SCK (out) "SPI Clock. Connect to EEPROM SCK pin.", 49 SPI_SD (io) "SPI Dataline Connect to GND with 15 kW resistor and to the Data I/O pin of the EEPROM.", 51 OVR#[4] (in) "Overcurrent Condition Detection Input. Default is Active LOW. Polarity is controlled through EEPROM.", 52 PWR#[4] (hiz) "Power Switch Driver Output. Default is active LOW. Polarity is controlled through EEPROM.", 53 OVR#[3] (in) "Overcurrent Condition Detection Input. Default is Active LOW. Polarity is controlled through EEPROM.", 54 PWR#[3] (hiz) "Power Switch Driver Output. Default is active LOW. Polarity is controlled through EEPROM."
part B pins: 3 VCC (power) "VCC. This signal provides power to the chip.", 4 GND (power) "GND. Connect to ground with as short a path as possible.", 7 VCC (power) "VCC. This signal provides power to the chip.", 8 GND (power) "GND. Connect to ground with as short a path as possible.", 11 VCC (power) "VCC. This signal provides power to the chip.", 12 GND (power) "GND. Connect to ground with as short a path as possible.", 15 VCC (power) "VCC. This signal provides power to the chip.", 16 GND (power) "GND. Connect to ground with as short a path as possible.", 19 VCC (power) "VCC. This signal provides power to the chip.", 20 GND (power) "GND. Connect to ground with as short a path as possible.", 23 VCC (power) "VCC. This signal provides power to the chip.", 24 GND (power) "GND. Connect to ground with as short a path as possible.", 26 VBUSPOWER (power) "VBUS. Connect to the VBUS pin of the upstream connector. This signal indicates to the hub that it is in a connected state, and may enable the D+ pull up resistor to indicate a connection. (The hub does so after the external (See Datasheet)", 27 VCC (power) "VCC. This signal provides power to the chip.", 28 GND (power) "GND. Connect to ground with as short a path as possible.", 33 VCC (power) "VCC. This signal provides power to the chip.", 34 GND (power) "GND. Connect to ground with as short a path as possible.", 39 VCC (power) "VCC. This signal provides power to the chip.", 40 GND (power) "GND. Connect to ground with as short a path as possible.", 47 GND (power) "GND. Connect to ground with as short a path as possible.", 50 GND (power) "GND. Connect to ground with as short a path as possible.", 55 VCC (power) "VCC. This signal provides power to the chip.", 56 GND (power) "GND. Connect to ground with as short a path as possible.", 57 EP